# Altium schematic symbol library GenesysHat.SchLib: 3 symbols
Pins are listed as number, name and electrical type; pins without a type are passive.

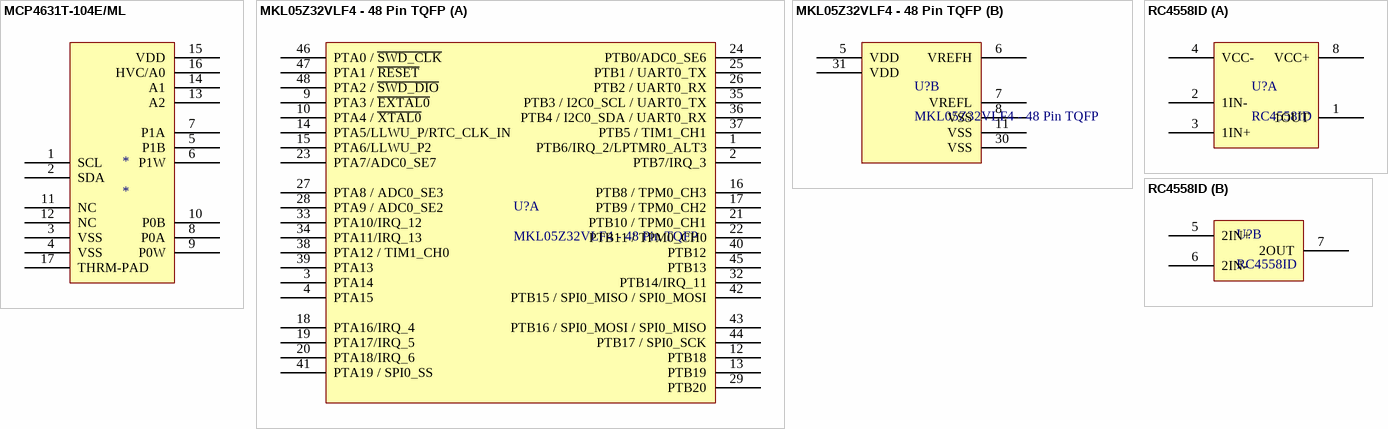
[diagram p0: symbols MCP4631T-104E/ML to RC4558ID]

## MCP4631T-104E/ML
designator *
IC DGTL POT 100K 129TAPS 16-QF; MFR #: MCP4631T-104E/ML; MFR: Microchip; Published Date: May 2015; Digikey #: MCP4631T-104E/MLCT-ND; Mounting Type: SMT QFN 16; Package: QFN 16
footprint MCP4631T-104E/ML (QFN, 16-Leads, Body 4.00x4.00mm, Pitch 0.65mm, Thermal Pad 2.65x2.65mm, IPC Medium Density)
pins: 1 SCL, 2 SDA, 3 VSS, 4 VSS, 5 P1B, 6 P1W, 7 P1A, 8 P0A, 9 P0W, 10 P0B, 11 NC, 12 NC, 13 A2, 14 A1, 15 VDD, 16 HVC/A0, 17 THRM-PAD

## MKL05Z32VLF4 - 48 Pin TQFP
designator U?
ARM Cortex M0+
part A pins: 1 PTB6/IRQ_2/LPTMR0_ALT3, 2 PTB7/IRQ_3, 3 PTA14, 4 PTA15, 9 PTA3 / ~{EXTAL0}, 10 PTA4 / ~{XTAL0}, 12 PTB18, 13 PTB19, 14 PTA5/LLWU_P/RTC_CLK_IN, 15 PTA6/LLWU_P2, 16 PTB8 / TPM0_CH3, 17 PTB9 / TPM0_CH2, 18 PTA16/IRQ_4, 19 PTA17/IRQ_5, 20 PTA18/IRQ_6, 21 PTB10 / TPM0_CH1, 22 PTB11 / TPM0_CH0, 23 PTA7/ADC0_SE7, 24 PTB0/ADC0_SE6, 25 PTB1 / UART0_TX, 26 PTB2 / UART0_RX, 27 PTA8 / ADC0_SE3, 28 PTA9 / ADC0_SE2, 29 PTB20, 32 PTB14/IRQ_11, 33 PTA10/IRQ_12, 34 PTA11/IRQ_13, 35 PTB3 / I2C0_SCL / UART0_TX, 36 PTB4 / I2C0_SDA / UART0_RX, 37 PTB5 / TIM1_CH1, 38 PTA12 / TIM1_CH0, 39 PTA13, 40 PTB12, 41 PTA19 / SPI0_SS, 42 PTB15 / SPI0_MISO / SPI0_MOSI, 43 PTB16 / SPI0_MOSI / SPI0_MISO, 44 PTB17 / SPI0_SCK, 45 PTB13, 46 PTA0 / ~{SWD_CLK}, 47 PTA1 / ~{RESET}, 48 PTA2 / ~{SWD_DIO}
part B pins: 5 VDD, 6 VREFH, 7 VREFL, 8 VSS, 11 VSS, 30 VSS, 31 VDD

## RC4558ID
designator U?
MFR: Ti; MFR #: RC4558ID
footprint TSOP65P490X110-8N (TSOP, 8-Leads, Body 3.00x3.00mm, Pitch 0.65mm, IPC Medium Density)
part A pins: 1 1OUT, 2 1IN-, 3 1IN+, 4 VCC-, 8 VCC+
part B pins: 5 2IN+, 6 2IN-, 7 2OUT